# EAGLE library part TLC5615 (library m_ic-signal)
10 bit serial DAC
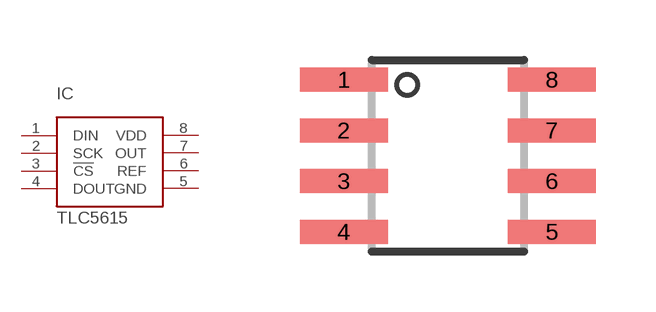
[diagram p3: symbol with the pads of SO08; footprint SO08]

Designator prefix IC

## TLC5615  [SO08]
1  DIN
2  SCK
3  !CS
4  DOUT  pas
5  GND  pwr
6  REF
7  OUT
8  VDD  pwr

## Footprint SO08 (pad centres in mm)
Small Outline Package 8 NS Package M08A
smd 2.2 x 0.6: 1 -2.604,1.905; 2 -2.604,0.635; 3 -2.604,-0.635; 4 -2.604,-1.905; 5 2.604,-1.905; 6 2.604,-0.635; 7 2.604,0.635; 8 2.604,1.905